# Altium footprint library lt1632.PcbLib: 1 footprints
Each footprint in its own frame and in the unit in brackets; x right, y up, seen from the top. Pads: shape width x height; smd on the part's side, far side on the other; paste and mask are expansions set on the pad; w line width, h text height; cw(c..) or ccw(c..) is an arc to the next point about the centre after c.
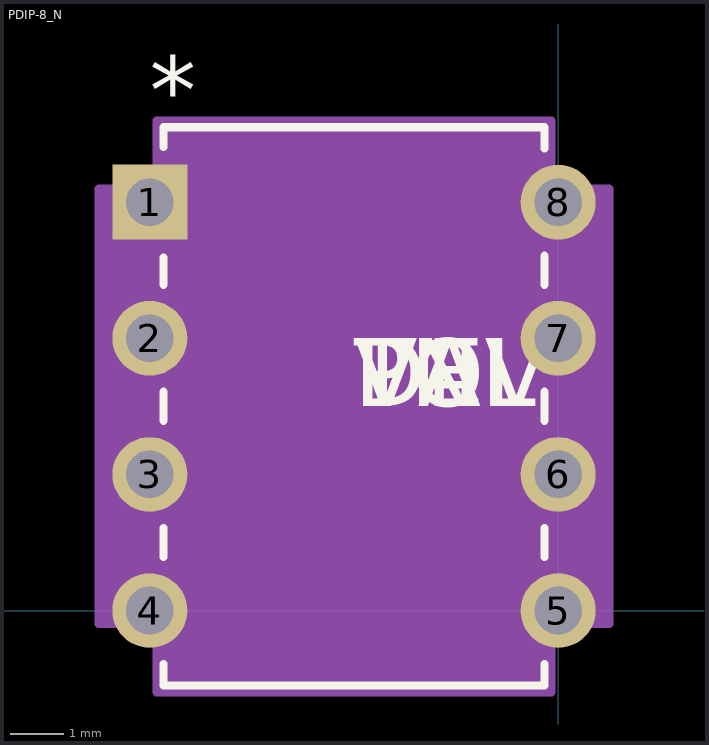
[diagram p0: the footprint, top view; thin cyan lines are the x and y axes]

## PDIP-8_N [mil]
pads (8):
  rect 55x55 / inner round 60 / far side rect 55x55 hole 35 paste+0 mask+0: 1(-300,300)
  round 55 / inner round 60 / far side round 55 hole 35 paste+0 mask+0: 2(-300,200) 3(-300,100) 4(-300,0) 5(0,0) 6(0,100) 7(0,200) 8(0,300)
Top Overlay:
  lines w6: -290,-39.35 -290,-55 -10,-55 -10,-39.35 ; -290,39.35 -290,60.65 ; -290,139.35 -290,160.65 ; -290,239.35 -290,259.4 ; -290,340.6 -290,355 -10,355 -10,339.35 ; -10,39.35 -10,60.65 ; -10,139.35 -10,160.65 ; -10,239.35 -10,260.65
  text "*" at -300,357.5 h50
  text "PN" at -150,150 h50
  text "DEV" at -150,150 h50
  text "VAL" at -150,150 h50
  text "TOL" at -150,150 h50
Mechanical 13:
  lines w0: -162,350 ccw(c-150,350) -138,350
  lines w1: -317.5,-17.5 -317.5,17.5 -285,17.5 -285,-17.5 -317.5,-17.5 ; -317.5,82.5 -317.5,117.5 -285,117.5 -285,82.5 -317.5,82.5 ; -317.5,182.5 -317.5,217.5 -285,217.5 -285,182.5 -317.5,182.5 ; -317.5,282.5 -317.5,317.5 -285,317.5 -285,282.5 -317.5,282.5 ; -285,-50 -15,-50 -15,350 -285,350 -285,-50 ; -15,-17.5 -15,17.5 17.5,17.5 17.5,-17.5 -15,-17.5 ; -15,82.5 -15,117.5 17.5,117.5 17.5,82.5 -15,82.5 ; -15,182.5 -15,217.5 17.5,217.5 17.5,182.5 -15,182.5 ; -15,282.5 -15,317.5 17.5,317.5 17.5,282.5 -15,282.5
  text "*" at -275,300 h50
  text "RefDes2" at -150,150 h50
Mechanical 15:
  region: -5,-10 37.5,-10 37.5,310 -5,310 -5,360 -295,360 -295,310 -337.5,310 -337.5,-10 -295,-10 -295,-60 -5,-60
  lines w6: -337.5,-10 -337.5,310 -295,310 -295,360 -5,360 -5,310 37.5,310 37.5,-10 -5,-10 -5,-60 -295,-60 -295,-10 -337.5,-10
3D body: height 10, standoff 0, extent 0,0 10,10